# Altium schematic symbol library TXS0108EQPWRQ1.SchLib: 1 symbol
Pins are listed as number, name and electrical type; pins without a type are passive.

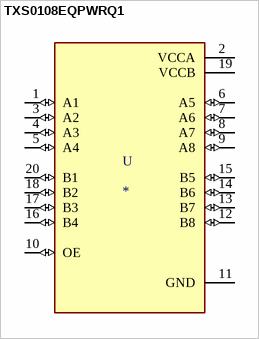
[diagram p0: symbol TXS0108EQPWRQ1]

## TXS0108EQPWRQ1
designator U
8-Bit Bi-directional, Level-Shifting, Voltage Translator for Open-Drain and Push-Pull Applications; MF: Texas Instruments; MP: TXS0108EQPWRQ1; Value: *; SnapEDA_Link: https://www.snapeda.com/parts/TXS0108EQPWRQ1/Texas%20Instruments/view-part/533146/?ref=snap; Arrow_Electronics-Purchase-URL: https://snapeda.com/shop?store=Arrow+Electronics&id=533146; Texas_Instruments-Purchase-URL: https://snapeda.com/shop?store=Texas+Instruments&id=533146; Mouser-Purchase-URL: https://snapeda.com/shop?store=Mouser&id=533146; Availability: Unavailable; Price: None; Package: TSSOP-20 Texas Instruments; DigiKey-Purchase-URL: https://snapeda.com/shop?store=DigiKey&id=533146
footprint SOP65P640X120-20N
pins: 1 A1 (io), 2 VCCA (power), 3 A2 (io), 4 A3 (io), 5 A4 (io), 6 A5 (io), 7 A6 (io), 8 A7 (io), 9 A8 (io), 10 OE (io), 11 GND (power), 12 B8 (io), 13 B7 (io), 14 B6 (io), 15 B5 (io), 16 B4 (io), 17 B3 (io), 18 B2 (io), 19 VCCB (power), 20 B1 (io)